# Altium schematic symbol library RF_NFC.SchLib: 3 symbols
Pins are listed as number, name and electrical type; pins without a type are passive.

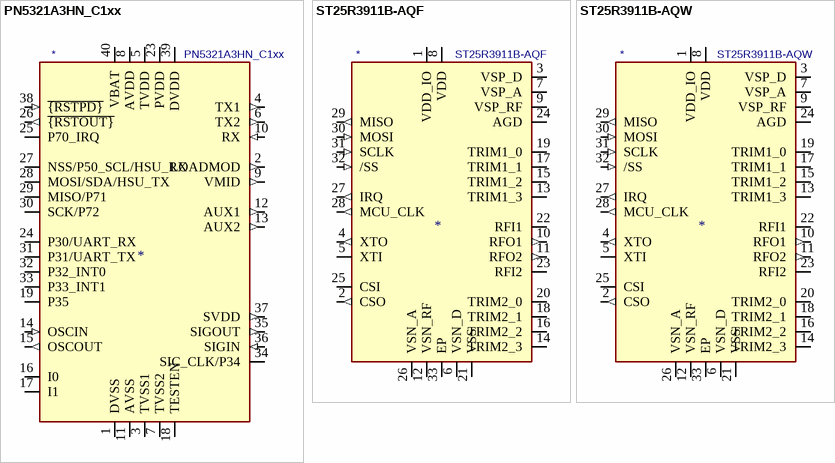
[diagram p0: symbols PN5321A3HN_C1xx to ST25R3911B-AQW]

## PN5321A3HN_C1xx
designator *  value PN5321A3HN_C1xx
ki_keywords: NFC; ki_description: Near Field Communication (NFC) controller, QFN-40; ki_fp_filters: HVQFN*1EP*6x6mm*P0.5mm*; Footprint: Package_DFN_QFN:HVQFN-40-1EP_6x6mm_P0.5mm_EP4.1x4.1mm; Supplier: https://www.nxp.com/docs/en/nxp/data-sheets/PN532_C1.pdf
footprint HVQFN-40-1EP_6x6mm_P0.5mm_EP4.1x4.1mm
pins: 1 DVSS (power), 2 LOADMOD (out), 3 TVSS1 (power), 4 TX1 (out), 5 TVDD (power), 6 TX2 (out), 7 TVSS2 (power), 8 AVDD (power), 9 VMID (out), 10 RX (in), 11 AVSS (power), 12 AUX1 (out), 13 AUX2 (out), 14 OSCIN (in), 15 OSCOUT (out), 16 I0, 17 I1, 18 TESTEN, 19 P35 (io), 20 N.C. (in) hidden, 21 N.C. (in) hidden, 22 N.C. (in) hidden, 23 PVDD (power), 24 P30/UART_RX (io), 25 P70_IRQ (io), 26 ~{{RSTOUT}} (out), 27 NSS/P50_SCL/HSU_RX (io), 28 MOSI/SDA/HSU_TX (io), 29 MISO/P71 (io), 30 SCK/P72 (io), 31 P31/UART_TX (io), 32 P32_INT0 (io), 33 P33_INT1 (io), 34 SIC_CLK/P34 (io), 35 SIGOUT (out), 36 SIGIN (in), 37 SVDD (out), 38 ~{{RSTPD}} (in), 39 DVDD (power), 40 VBAT (power), 41 AVSS hidden

## ST25R3911B-AQF
designator *  value ST25R3911B-AQF
ki_keywords: NFC; ki_description: High performance HR reader/NFC initiator with 1.4W supporting VHBR and AAT, QFN32; ki_fp_filters: *QFN*1EP*5x5mm*P0.5mm*; Footprint: Package_DFN_QFN:QFN-32-1EP_5x5mm_P0.5mm_EP3.6x3.6mm_ThermalVias; Supplier: https://www.st.com/resource/en/datasheet/st25r3911b.pdf
footprint QFN-32-1EP_5x5mm_P0.5mm_EP3.6x3.6mm_ThermalVias
pins: 1 VDD_IO (power), 2 CSO (out), 3 VSP_D (power), 4 XTO (out), 5 XTI, 6 VSN_D (power), 7 VSP_A (power), 8 VDD (power), 9 VSP_RF (power), 10 RFO1 (out), 11 RFO2 (out), 12 VSN_RF (power), 13 TRIM1_3, 14 TRIM2_3, 15 TRIM1_2, 16 TRIM2_2, 17 TRIM1_1, 18 TRIM2_1, 19 TRIM1_0, 20 TRIM2_0, 21 VSS (power), 22 RFI1, 23 RFI2, 24 AGD, 25 CSI, 26 VSN_A (power), 27 IRQ (out), 28 MCU_CLK (out), 29 MISO (out), 30 MOSI (in), 31 SCLK (in), 32 /SS (in), 33 EP (power)

## ST25R3911B-AQW
designator *  value ST25R3911B-AQW
ki_keywords: NFC; ki_description: High performance HR reader/NFC initiator with 1.4W supporting VHBR and AAT, VFQFPN32; ki_fp_filters: *QFN*1EP*5x5mm*P0.5mm*; Footprint: Package_DFN_QFN:VQFN-32-1EP_5x5mm_P0.5mm_EP3.5x3.5mm_ThermalVias; Supplier: https://www.st.com/resource/en/datasheet/st25r3911b.pdf
footprint VQFN-32-1EP_5x5mm_P0.5mm_EP3.5x3.5mm_ThermalVias
pins: 1 VDD_IO (power), 2 CSO (out), 3 VSP_D (power), 4 XTO (out), 5 XTI, 6 VSN_D (power), 7 VSP_A (power), 8 VDD (power), 9 VSP_RF (power), 10 RFO1 (out), 11 RFO2 (out), 12 VSN_RF (power), 13 TRIM1_3, 14 TRIM2_3, 15 TRIM1_2, 16 TRIM2_2, 17 TRIM1_1, 18 TRIM2_1, 19 TRIM1_0, 20 TRIM2_0, 21 VSS (power), 22 RFI1, 23 RFI2, 24 AGD, 25 CSI, 26 VSN_A (power), 27 IRQ (out), 28 MCU_CLK (out), 29 MISO (out), 30 MOSI (in), 31 SCLK (in), 32 /SS (in), 33 EP (power)